# EAGLE library part SD103ASDM (library IntegerLabs)
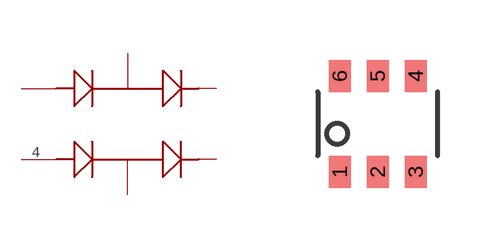
[diagram p9: symbol with the pads of SOT-26; footprint SOT-26]

Designator prefix -

## SD103ASDM  [SOT-26]
1  P1
2  P2
3  P3
4  P4
5  P5
6  P6

## Footprint SOT-26 (pad centres in mm)
smd 0.55 x 0.8: 1 -0.95,-1.2; 2 0,-1.2; 3 0.95,-1.2; 4 0.95,1.2; 5 0,1.2; 6 -0.95,1.2